# EAGLE library part SCD30 (library we-sensor)
Sensirion SCD30 CO2, Humidity, Temperature Sensor
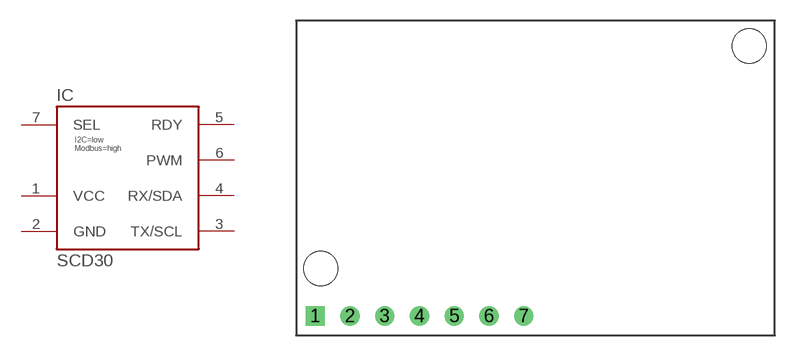
[diagram p10: symbol with the pads of SCD30; footprint SCD30]

Designator prefix IC

## SCD30  [SCD30]
1  VCC  pwr
2  GND  pwr
3  TX/SCL
4  RX/SDA
5  RDY  out
6  PWM  out
7  SEL

## Footprint SCD30 (pad centres in mm)
drill 0.9 square: 1 -16.1,-10.09
drill 0.9: 2 -13.56,-10.09; 3 -11.02,-10.09; 4 -8.48,-10.09; 5 -5.94,-10.09; 6 -3.4,-10.09; 7 -0.86,-10.09
hole 2.5 at -15.7,-6.62
hole 2.5 at 15.62,9.64